# Altium schematic symbol library SFP_EdgeConn.SchLib: 1 symbol
Pins are listed as number, name and electrical type; pins without a type are passive.

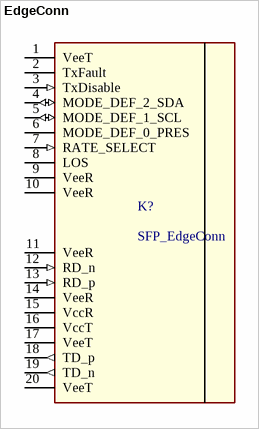
[diagram p0: symbol EdgeConn]

## EdgeConn
designator K?, comment SFP_EdgeConn
footprint SFP-Edge-Conn
pins: 1 VeeT (power) "Transmitter Ground", 2 TxFault (oc) "Transmitter Fault Indication. TX Fault is an open collector/drain output, which should be pulled up with a 4.7K – 10KW resistor on the host board.", 3 TxDisable (in) "Transmitter Disable. TX disable is an input that is used to shut down the transmitter optical output. It is pulled up within the module with a 4.7 – 10 KW resistor. High (2.0 – 3.465V): Transmitter Disabled. Open: Transmitter Disabled.", 4 MODE_DEF_2_SDA (io) "Mod-Def 0,1,2. These are the module definition pins. They should be pulled up with a 4.7K – 10KW resistor on the host board. The pull-up voltage shall be VccT or VccR (see Section IV for  further details). Mod-Def 0 is grounded by the module to indicate that the module is present. Mod-Def 2 is the data line of two wire serial interface for serial ID.", 5 MODE_DEF_1_SCL (io) "Mod-Def 0,1,2. These are the module definition pins. They should be pulled up with a 4.7K – 10KW resistor on the host board. The pull-up voltage shall be VccT or VccR (see Section IV for  further details). Mod-Def 0 is grounded by the module to indicate that the module is present. Mod-Def 1 is the clock line of two wire serial interface for serial ID.", 6 MODE_DEF_0_PRES (power) "Mod-Def 0,1,2. These are the module definition pins. They should be pulled up with a 4.7K – 10KW resistor on the host board. The pull-up voltage shall be VccT or VccR (see Section IV for  further details). Mod-Def 0 is grounded by the module to indicate that the module is present. Mod-Def 0 is grounded by the module to indicate that the module is present.", 7 RATE_SELECT (in) "This is an optional input used to control the receiver bandwidth for compatibility with multiple data rates (most likely Fibre Channel 1x and 2x Rates). If implemented, the input will be internally pulled down with > 30kW resistor. The input states are. High (2.0 – 3.465V): Full Bandwidth", 8 LOS (oc) "LOS (Loss of Signal) is an open collector/drain output, which should be pulled up with a 4.7K – 10KW resistor. Pull up voltage between 2.0V and VccT, R+0.3V. When high, this output indicates the received optical power is below the worst-case receiver sensitivity (as defined by the standard in use). Low indicates normal operation. In the low state, the output will be pulled to < 0.8V.", 9 VeeR (power) "Receiver Ground", 10 VeeR (power) "Receiver Ground", 11 VeeR (power) "Receiver Ground", 12 RD_n (in) "Inv. Received Data Out", 13 RD_p (in) "Received Data Out", 14 VeeR (power) "Receiver Ground", 15 VccR (power) "Receiver Power", 16 VccT (power) "Transmitter Power", 17 VeeT (power) "Transmitter Ground", 18 TD_p (out) "Transmit Data In", 19 TD_n (out) "Inv. Transmit Data In", 20 VeeT (power) "Transmitter Ground"